# Altium integrated library Linear Technology Power Management LDO Linear Regulators.IntLib: 2339 symbols (part 110 of 131)
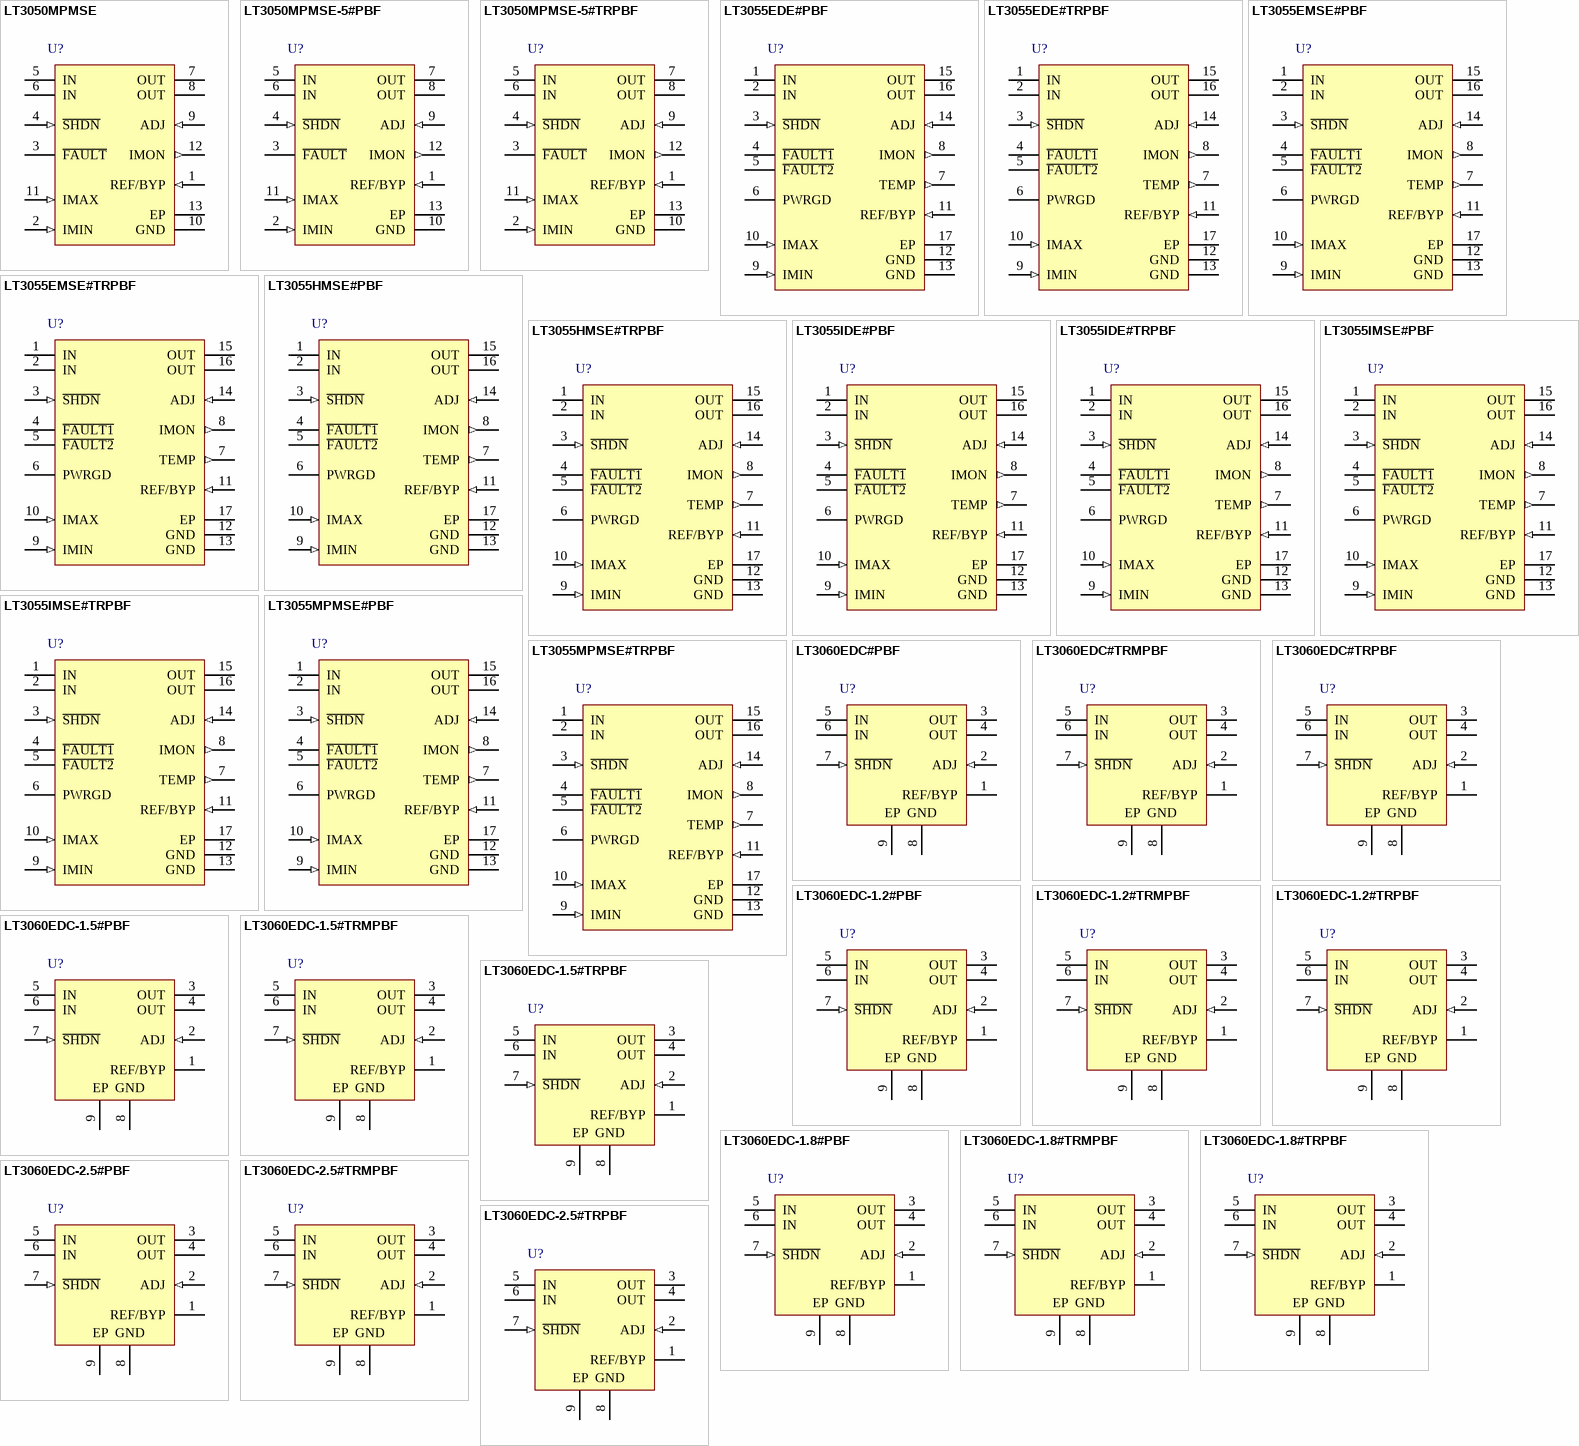
[diagram p178: symbols LT3050MPMSE to LT3060EDC-2.5#TRPBF]

## LT3060EDC-1.5#TRMPBF
designator U?
Micropower, Low Noise, 100 mA Low Dropout, Linear Regulator, 1.6 to 45 V Vin, 1.5 V Vout, 8-pin SON (DC8-8), -40 to 125 degC, Pb-Free, Mini Tape and Reel; Manufacturer: Linear Technology; PartNumber: LT3060EDC-1.5#TRMPBF; Discrete Pass Element: no; Dropout Voltage(V): 0.3; Iout(mA): 100; Isupply(mA): 0.04; Noise(uV): 30; Number of Outputs: 1; Output Voltage: 1.5 V; PSRR(dB): 77; Vin Max(V): 45; Vin Min(V): 1.6; DatasheetVersion: Rev. B; PackageVersion: Rev. A, 06/2010; PackageReference: DC8-8; PackageDescription: 8-Pin Plastic DFN, Body 2 x 2 mm, Pitch 0.45 mm; Supplier 1: Digi-Key; Supplier Part Number 1: LT3060EDC-1.5#TRMPBFTR-ND; Supplier 2: Digi-Key; Supplier Part Number 2: LT3060EDC-1.5#TRMPBFCT-ND; Supplier 3: Digi-Key; Supplier Part Number 3: LT3060EDC-1.5#TRMPBFDKR-ND; Supplier 4: Farnell; Supplier Part Number 4: 1847538; Packing: Mini Tape and Reel; RoHS: TRUE; Shutdown Current(uA): 0.3; Mounting Technology: Surface Mount; ComponentLink1Description: Manufacturer URL; ComponentLink1URL: http://www.linear.com/; ComponentLink2Description: Datasheet; ComponentLink2URL: http://cds.linear.com/docs/en/datasheet/3060fb.pdf; ComponentLink3Description: Package Specification; ComponentLink3URL: http://www.linear.com/docs/en/packaging/DFN_8_05-08-1719.pdf
footprint LT-DC8-8_V (SON, 8-Leads, Body 2x2mm, Pitch 0.45mm, Thermal Pad 1.37x0.64mm)
pins: 1 REF/BYP "Reference/Bypass. Connecting a single capacitor from this pin to GND bypasses the LT3060’s reference noise and soft-starts the reference. A 10nF bypass capacitor typically reduces output voltage noise to 30uVRMS in a 10H(See Datasheet)", 2 ADJ (in) "Adjust. This pin is the error amplifier’s inverting terminal. It’s typical bias current of 15nA flows out of the pin (see curve of ADJ Pin Bias Current vs Temperature in the Typical Performance Characteristics sectio(See Datasheet)", 3 OUT (power) "Output. These pin(s) supply power to the load. Stability requirements demand a minimum 2.2uF ceramic output capacitor to prevent oscillations. Large load transient applications require larger output capacitors to limit peak (See Datasheet)", 4 OUT (power) "Output. These pin(s) supply power to the load. Stability requirements demand a minimum 2.2uF ceramic output capacitor to prevent oscillations. Large load transient applications require larger output capacitors to limit peak (See Datasheet)", 5 IN (power) "Input. These pin(s) supply power to the device. The LT3060 requires a local IN bypass capacitor if it is located more than six inches from the main input filter capacitor. In general, battery output impedance rises with (See Datasheet)", 6 IN (power) "Input. These pin(s) supply power to the device. The LT3060 requires a local IN bypass capacitor if it is located more than six inches from the main input filter capacitor. In general, battery output impedance rises with (See Datasheet)", 7 ~{SHDN} (in) "Shutdown. Pulling the S\H\D\N\ pin low puts the LT3060 into a low power state and turns the output off. Drive the S\H\D\N\ pin with either logic or an open collector/drain with a pull-up resistor. The resistor supplies the (See Datasheet)", 8 GND (power) "Ground. For the adjustable LT3060, connect the bottom of the external resistor divider that sets the output voltage directly to GND for optimum regulation. For the DFN package, tie exposed pad Pin 9 directly to Pin 8 and the (See Datasheet)", 9 EP (power) "Ground. For the adjustable LT3060, connect the bottom of the external resistor divider that sets the output voltage directly to GND for optimum regulation. For the DFN package, tie exposed pad Pin 9 directly to Pin 8 and the (See Datasheet)"

## LT3060EDC-1.5#TRPBF
designator U?
Micropower, Low Noise, 100 mA Low Dropout, Linear Regulator, 1.6 to 45 V Vin, 1.5 V Vout, 8-pin SON (DC8-8), -40 to 125 degC, Pb-Free, Tape and Reel; Manufacturer: Linear Technology; PartNumber: LT3060EDC-1.5#TRPBF; Discrete Pass Element: no; Dropout Voltage(V): 0.3; Iout(mA): 100; Isupply(mA): 0.04; Noise(uV): 30; Number of Outputs: 1; Output Voltage: 1.5 V; PSRR(dB): 77; Vin Max(V): 45; Vin Min(V): 1.6; DatasheetVersion: Rev. B; PackageVersion: Rev. A, 06/2010; PackageReference: DC8-8; PackageDescription: 8-Pin Plastic DFN, Body 2 x 2 mm, Pitch 0.45 mm; Supplier 1: Digi-Key; Supplier Part Number 1: LT3060EDC-1.5#TRPBF-ND; Packing: Tape and Reel; RoHS: TRUE; Shutdown Current(uA): 0.3; Mounting Technology: Surface Mount; ComponentLink1Description: Manufacturer URL; ComponentLink1URL: http://www.linear.com/; ComponentLink2Description: Datasheet; ComponentLink2URL: http://cds.linear.com/docs/en/datasheet/3060fb.pdf; ComponentLink3Description: Package Specification; ComponentLink3URL: http://www.linear.com/docs/en/packaging/DFN_8_05-08-1719.pdf
footprint LT-DC8-8_V (SON, 8-Leads, Body 2x2mm, Pitch 0.45mm, Thermal Pad 1.37x0.64mm)
pins: 1 REF/BYP "Reference/Bypass. Connecting a single capacitor from this pin to GND bypasses the LT3060’s reference noise and soft-starts the reference. A 10nF bypass capacitor typically reduces output voltage noise to 30uVRMS in a 10H(See Datasheet)", 2 ADJ (in) "Adjust. This pin is the error amplifier’s inverting terminal. It’s typical bias current of 15nA flows out of the pin (see curve of ADJ Pin Bias Current vs Temperature in the Typical Performance Characteristics sectio(See Datasheet)", 3 OUT (power) "Output. These pin(s) supply power to the load. Stability requirements demand a minimum 2.2uF ceramic output capacitor to prevent oscillations. Large load transient applications require larger output capacitors to limit peak (See Datasheet)", 4 OUT (power) "Output. These pin(s) supply power to the load. Stability requirements demand a minimum 2.2uF ceramic output capacitor to prevent oscillations. Large load transient applications require larger output capacitors to limit peak (See Datasheet)", 5 IN (power) "Input. These pin(s) supply power to the device. The LT3060 requires a local IN bypass capacitor if it is located more than six inches from the main input filter capacitor. In general, battery output impedance rises with (See Datasheet)", 6 IN (power) "Input. These pin(s) supply power to the device. The LT3060 requires a local IN bypass capacitor if it is located more than six inches from the main input filter capacitor. In general, battery output impedance rises with (See Datasheet)", 7 ~{SHDN} (in) "Shutdown. Pulling the S\H\D\N\ pin low puts the LT3060 into a low power state and turns the output off. Drive the S\H\D\N\ pin with either logic or an open collector/drain with a pull-up resistor. The resistor supplies the (See Datasheet)", 8 GND (power) "Ground. For the adjustable LT3060, connect the bottom of the external resistor divider that sets the output voltage directly to GND for optimum regulation. For the DFN package, tie exposed pad Pin 9 directly to Pin 8 and the (See Datasheet)", 9 EP (power) "Ground. For the adjustable LT3060, connect the bottom of the external resistor divider that sets the output voltage directly to GND for optimum regulation. For the DFN package, tie exposed pad Pin 9 directly to Pin 8 and the (See Datasheet)"

## LT3060EDC-1.8#PBF
designator U?
Micropower, Low Noise, 100 mA Low Dropout, Linear Regulator, 1.6 to 45 V Vin, 1.8 V Vout, 8-pin SON (DC8-8), -40 to 125 degC, Pb-Free; Manufacturer: Linear Technology; PartNumber: LT3060EDC-1.8#PBF; Discrete Pass Element: no; Dropout Voltage(V): 0.3; Iout(mA): 100; Isupply(mA): 0.04; Noise(uV): 30; Number of Outputs: 1; Output Voltage: 1.8 V; PSRR(dB): 75; Vin Max(V): 45; Vin Min(V): 1.6; DatasheetVersion: Rev. B; PackageVersion: Rev. A, 06/2010; PackageReference: DC8-8; PackageDescription: 8-Pin Plastic DFN, Body 2 x 2 mm, Pitch 0.45 mm; Supplier 1: Farnell; Supplier Part Number 1: 1847660; Supplier 2: Newark; Supplier Part Number 2: 84R7849; RoHS: TRUE; Shutdown Current(uA): 0.3; Mounting Technology: Surface Mount; ComponentLink1Description: Manufacturer URL; ComponentLink1URL: http://www.linear.com/; ComponentLink2Description: Datasheet; ComponentLink2URL: http://cds.linear.com/docs/en/datasheet/3060fb.pdf; ComponentLink3Description: Package Specification; ComponentLink3URL: http://www.linear.com/docs/en/packaging/DFN_8_05-08-1719.pdf
footprint LT-DC8-8_V (SON, 8-Leads, Body 2x2mm, Pitch 0.45mm, Thermal Pad 1.37x0.64mm)
pins: 1 REF/BYP "Reference/Bypass. Connecting a single capacitor from this pin to GND bypasses the LT3060’s reference noise and soft-starts the reference. A 10nF bypass capacitor typically reduces output voltage noise to 30uVRMS in a 10H(See Datasheet)", 2 ADJ (in) "Adjust. This pin is the error amplifier’s inverting terminal. It’s typical bias current of 15nA flows out of the pin (see curve of ADJ Pin Bias Current vs Temperature in the Typical Performance Characteristics sectio(See Datasheet)", 3 OUT (power) "Output. These pin(s) supply power to the load. Stability requirements demand a minimum 2.2uF ceramic output capacitor to prevent oscillations. Large load transient applications require larger output capacitors to limit peak (See Datasheet)", 4 OUT (power) "Output. These pin(s) supply power to the load. Stability requirements demand a minimum 2.2uF ceramic output capacitor to prevent oscillations. Large load transient applications require larger output capacitors to limit peak (See Datasheet)", 5 IN (power) "Input. These pin(s) supply power to the device. The LT3060 requires a local IN bypass capacitor if it is located more than six inches from the main input filter capacitor. In general, battery output impedance rises with (See Datasheet)", 6 IN (power) "Input. These pin(s) supply power to the device. The LT3060 requires a local IN bypass capacitor if it is located more than six inches from the main input filter capacitor. In general, battery output impedance rises with (See Datasheet)", 7 ~{SHDN} (in) "Shutdown. Pulling the S\H\D\N\ pin low puts the LT3060 into a low power state and turns the output off. Drive the S\H\D\N\ pin with either logic or an open collector/drain with a pull-up resistor. The resistor supplies the (See Datasheet)", 8 GND (power) "Ground. For the adjustable LT3060, connect the bottom of the external resistor divider that sets the output voltage directly to GND for optimum regulation. For the DFN package, tie exposed pad Pin 9 directly to Pin 8 and the (See Datasheet)", 9 EP (power) "Ground. For the adjustable LT3060, connect the bottom of the external resistor divider that sets the output voltage directly to GND for optimum regulation. For the DFN package, tie exposed pad Pin 9 directly to Pin 8 and the (See Datasheet)"

## LT3060EDC-1.8#TRMPBF
designator U?
Micropower, Low Noise, 100 mA Low Dropout, Linear Regulator, 1.6 to 45 V Vin, 1.8 V Vout, 8-pin SON (DC8-8), -40 to 125 degC, Pb-Free, Mini Tape and Reel; Manufacturer: Linear Technology; PartNumber: LT3060EDC-1.8#TRMPBF; Discrete Pass Element: no; Dropout Voltage(V): 0.3; Iout(mA): 100; Isupply(mA): 0.04; Noise(uV): 30; Number of Outputs: 1; Output Voltage: 1.8 V; PSRR(dB): 75; Vin Max(V): 45; Vin Min(V): 1.6; DatasheetVersion: Rev. B; PackageVersion: Rev. A, 06/2010; PackageReference: DC8-8; PackageDescription: 8-Pin Plastic DFN, Body 2 x 2 mm, Pitch 0.45 mm; Supplier 1: Digi-Key; Supplier Part Number 1: LT3060EDC-1.8#TRMPBFTR-ND; Supplier 2: Digi-Key; Supplier Part Number 2: LT3060EDC-1.8#TRMPBFCT-ND; Supplier 3: Digi-Key; Supplier Part Number 3: LT3060EDC-1.8#TRMPBFDKR-ND; Supplier 4: Farnell; Supplier Part Number 4: 1847542; Packing: Mini Tape and Reel; RoHS: TRUE; Shutdown Current(uA): 0.3; Mounting Technology: Surface Mount; ComponentLink1Description: Manufacturer URL; ComponentLink1URL: http://www.linear.com/; ComponentLink2Description: Datasheet; ComponentLink2URL: http://cds.linear.com/docs/en/datasheet/3060fb.pdf; ComponentLink3Description: Package Specification; ComponentLink3URL: http://www.linear.com/docs/en/packaging/DFN_8_05-08-1719.pdf
footprint LT-DC8-8_V (SON, 8-Leads, Body 2x2mm, Pitch 0.45mm, Thermal Pad 1.37x0.64mm)
pins: 1 REF/BYP "Reference/Bypass. Connecting a single capacitor from this pin to GND bypasses the LT3060’s reference noise and soft-starts the reference. A 10nF bypass capacitor typically reduces output voltage noise to 30uVRMS in a 10H(See Datasheet)", 2 ADJ (in) "Adjust. This pin is the error amplifier’s inverting terminal. It’s typical bias current of 15nA flows out of the pin (see curve of ADJ Pin Bias Current vs Temperature in the Typical Performance Characteristics sectio(See Datasheet)", 3 OUT (power) "Output. These pin(s) supply power to the load. Stability requirements demand a minimum 2.2uF ceramic output capacitor to prevent oscillations. Large load transient applications require larger output capacitors to limit peak (See Datasheet)", 4 OUT (power) "Output. These pin(s) supply power to the load. Stability requirements demand a minimum 2.2uF ceramic output capacitor to prevent oscillations. Large load transient applications require larger output capacitors to limit peak (See Datasheet)", 5 IN (power) "Input. These pin(s) supply power to the device. The LT3060 requires a local IN bypass capacitor if it is located more than six inches from the main input filter capacitor. In general, battery output impedance rises with (See Datasheet)", 6 IN (power) "Input. These pin(s) supply power to the device. The LT3060 requires a local IN bypass capacitor if it is located more than six inches from the main input filter capacitor. In general, battery output impedance rises with (See Datasheet)", 7 ~{SHDN} (in) "Shutdown. Pulling the S\H\D\N\ pin low puts the LT3060 into a low power state and turns the output off. Drive the S\H\D\N\ pin with either logic or an open collector/drain with a pull-up resistor. The resistor supplies the (See Datasheet)", 8 GND (power) "Ground. For the adjustable LT3060, connect the bottom of the external resistor divider that sets the output voltage directly to GND for optimum regulation. For the DFN package, tie exposed pad Pin 9 directly to Pin 8 and the (See Datasheet)", 9 EP (power) "Ground. For the adjustable LT3060, connect the bottom of the external resistor divider that sets the output voltage directly to GND for optimum regulation. For the DFN package, tie exposed pad Pin 9 directly to Pin 8 and the (See Datasheet)"

## LT3060EDC-1.8#TRPBF
designator U?
Micropower, Low Noise, 100 mA Low Dropout, Linear Regulator, 1.6 to 45 V Vin, 1.8 V Vout, 8-pin SON (DC8-8), -40 to 125 degC, Pb-Free, Tape and Reel; Manufacturer: Linear Technology; PartNumber: LT3060EDC-1.8#TRPBF; Discrete Pass Element: no; Dropout Voltage(V): 0.3; Iout(mA): 100; Isupply(mA): 0.04; Noise(uV): 30; Number of Outputs: 1; Output Voltage: 1.8 V; PSRR(dB): 75; Vin Max(V): 45; Vin Min(V): 1.6; DatasheetVersion: Rev. B; PackageVersion: Rev. A, 06/2010; PackageReference: DC8-8; PackageDescription: 8-Pin Plastic DFN, Body 2 x 2 mm, Pitch 0.45 mm; Supplier 1: Digi-Key; Supplier Part Number 1: LT3060EDC-1.8#TRPBF-ND; Packing: Tape and Reel; RoHS: TRUE; Shutdown Current(uA): 0.3; Mounting Technology: Surface Mount; ComponentLink1Description: Manufacturer URL; ComponentLink1URL: http://www.linear.com/; ComponentLink2Description: Datasheet; ComponentLink2URL: http://cds.linear.com/docs/en/datasheet/3060fb.pdf; ComponentLink3Description: Package Specification; ComponentLink3URL: http://www.linear.com/docs/en/packaging/DFN_8_05-08-1719.pdf
footprint LT-DC8-8_V (SON, 8-Leads, Body 2x2mm, Pitch 0.45mm, Thermal Pad 1.37x0.64mm)
pins: 1 REF/BYP "Reference/Bypass. Connecting a single capacitor from this pin to GND bypasses the LT3060’s reference noise and soft-starts the reference. A 10nF bypass capacitor typically reduces output voltage noise to 30uVRMS in a 10H(See Datasheet)", 2 ADJ (in) "Adjust. This pin is the error amplifier’s inverting terminal. It’s typical bias current of 15nA flows out of the pin (see curve of ADJ Pin Bias Current vs Temperature in the Typical Performance Characteristics sectio(See Datasheet)", 3 OUT (power) "Output. These pin(s) supply power to the load. Stability requirements demand a minimum 2.2uF ceramic output capacitor to prevent oscillations. Large load transient applications require larger output capacitors to limit peak (See Datasheet)", 4 OUT (power) "Output. These pin(s) supply power to the load. Stability requirements demand a minimum 2.2uF ceramic output capacitor to prevent oscillations. Large load transient applications require larger output capacitors to limit peak (See Datasheet)", 5 IN (power) "Input. These pin(s) supply power to the device. The LT3060 requires a local IN bypass capacitor if it is located more than six inches from the main input filter capacitor. In general, battery output impedance rises with (See Datasheet)", 6 IN (power) "Input. These pin(s) supply power to the device. The LT3060 requires a local IN bypass capacitor if it is located more than six inches from the main input filter capacitor. In general, battery output impedance rises with (See Datasheet)", 7 ~{SHDN} (in) "Shutdown. Pulling the S\H\D\N\ pin low puts the LT3060 into a low power state and turns the output off. Drive the S\H\D\N\ pin with either logic or an open collector/drain with a pull-up resistor. The resistor supplies the (See Datasheet)", 8 GND (power) "Ground. For the adjustable LT3060, connect the bottom of the external resistor divider that sets the output voltage directly to GND for optimum regulation. For the DFN package, tie exposed pad Pin 9 directly to Pin 8 and the (See Datasheet)", 9 EP (power) "Ground. For the adjustable LT3060, connect the bottom of the external resistor divider that sets the output voltage directly to GND for optimum regulation. For the DFN package, tie exposed pad Pin 9 directly to Pin 8 and the (See Datasheet)"

## LT3060EDC-2.5#PBF
designator U?
Micropower, Low Noise, 100 mA Low Dropout, Linear Regulator, 1.6 to 45 V Vin, 2.5 V Vout, 8-pin SON (DC8-8), -40 to 125 degC, Pb-Free; Manufacturer: Linear Technology; PartNumber: LT3060EDC-2.5#PBF; Discrete Pass Element: no; Dropout Voltage(V): 0.3; Iout(mA): 100; Isupply(mA): 0.04; Noise(uV): 30; Number of Outputs: 1; Output Voltage: 2.5 V; PSRR(dB): 73; Vin Max(V): 45; Vin Min(V): 1.6; DatasheetVersion: Rev. B; PackageVersion: Rev. A, 06/2010; PackageReference: DC8-8; PackageDescription: 8-Pin Plastic DFN, Body 2 x 2 mm, Pitch 0.45 mm; Supplier 1: Farnell; Supplier Part Number 1: 1847662; Supplier 2: Newark; Supplier Part Number 2: 84R7850; RoHS: TRUE; Shutdown Current(uA): 0.3; Mounting Technology: Surface Mount; ComponentLink1Description: Manufacturer URL; ComponentLink1URL: http://www.linear.com/; ComponentLink2Description: Datasheet; ComponentLink2URL: http://cds.linear.com/docs/en/datasheet/3060fb.pdf; ComponentLink3Description: Package Specification; ComponentLink3URL: http://www.linear.com/docs/en/packaging/DFN_8_05-08-1719.pdf
footprint LT-DC8-8_V (SON, 8-Leads, Body 2x2mm, Pitch 0.45mm, Thermal Pad 1.37x0.64mm)
pins: 1 REF/BYP "Reference/Bypass. Connecting a single capacitor from this pin to GND bypasses the LT3060’s reference noise and soft-starts the reference. A 10nF bypass capacitor typically reduces output voltage noise to 30uVRMS in a 10H(See Datasheet)", 2 ADJ (in) "Adjust. This pin is the error amplifier’s inverting terminal. It’s typical bias current of 15nA flows out of the pin (see curve of ADJ Pin Bias Current vs Temperature in the Typical Performance Characteristics sectio(See Datasheet)", 3 OUT (power) "Output. These pin(s) supply power to the load. Stability requirements demand a minimum 2.2uF ceramic output capacitor to prevent oscillations. Large load transient applications require larger output capacitors to limit peak (See Datasheet)", 4 OUT (power) "Output. These pin(s) supply power to the load. Stability requirements demand a minimum 2.2uF ceramic output capacitor to prevent oscillations. Large load transient applications require larger output capacitors to limit peak (See Datasheet)", 5 IN (power) "Input. These pin(s) supply power to the device. The LT3060 requires a local IN bypass capacitor if it is located more than six inches from the main input filter capacitor. In general, battery output impedance rises with (See Datasheet)", 6 IN (power) "Input. These pin(s) supply power to the device. The LT3060 requires a local IN bypass capacitor if it is located more than six inches from the main input filter capacitor. In general, battery output impedance rises with (See Datasheet)", 7 ~{SHDN} (in) "Shutdown. Pulling the S\H\D\N\ pin low puts the LT3060 into a low power state and turns the output off. Drive the S\H\D\N\ pin with either logic or an open collector/drain with a pull-up resistor. The resistor supplies the (See Datasheet)", 8 GND (power) "Ground. For the adjustable LT3060, connect the bottom of the external resistor divider that sets the output voltage directly to GND for optimum regulation. For the DFN package, tie exposed pad Pin 9 directly to Pin 8 and the (See Datasheet)", 9 EP (power) "Ground. For the adjustable LT3060, connect the bottom of the external resistor divider that sets the output voltage directly to GND for optimum regulation. For the DFN package, tie exposed pad Pin 9 directly to Pin 8 and the (See Datasheet)"

## LT3060EDC-2.5#TRMPBF
designator U?
Micropower, Low Noise, 100 mA Low Dropout, Linear Regulator, 1.6 to 45 V Vin, 2.5 V Vout, 8-pin SON (DC8-8), -40 to 125 degC, Pb-Free, Mini Tape and Reel; Manufacturer: Linear Technology; PartNumber: LT3060EDC-2.5#TRMPBF; Discrete Pass Element: no; Dropout Voltage(V): 0.3; Iout(mA): 100; Isupply(mA): 0.04; Noise(uV): 30; Number of Outputs: 1; Output Voltage: 2.5 V; PSRR(dB): 73; Vin Max(V): 45; Vin Min(V): 1.6; DatasheetVersion: Rev. B; PackageVersion: Rev. A, 06/2010; PackageReference: DC8-8; PackageDescription: 8-Pin Plastic DFN, Body 2 x 2 mm, Pitch 0.45 mm; Supplier 1: Digi-Key; Supplier Part Number 1: LT3060EDC-2.5#TRMPBFTR-ND; Supplier 2: Digi-Key; Supplier Part Number 2: LT3060EDC-2.5#TRMPBFCT-ND; Supplier 3: Digi-Key; Supplier Part Number 3: LT3060EDC-2.5#TRMPBFDKR-ND; Supplier 4: Farnell; Supplier Part Number 4: 1847560; Packing: Mini Tape and Reel; RoHS: TRUE; Shutdown Current(uA): 0.3; Mounting Technology: Surface Mount; ComponentLink1Description: Manufacturer URL; ComponentLink1URL: http://www.linear.com/; ComponentLink2Description: Datasheet; ComponentLink2URL: http://cds.linear.com/docs/en/datasheet/3060fb.pdf; ComponentLink3Description: Package Specification; ComponentLink3URL: http://www.linear.com/docs/en/packaging/DFN_8_05-08-1719.pdf
footprint LT-DC8-8_V (SON, 8-Leads, Body 2x2mm, Pitch 0.45mm, Thermal Pad 1.37x0.64mm)
pins: 1 REF/BYP "Reference/Bypass. Connecting a single capacitor from this pin to GND bypasses the LT3060’s reference noise and soft-starts the reference. A 10nF bypass capacitor typically reduces output voltage noise to 30uVRMS in a 10H(See Datasheet)", 2 ADJ (in) "Adjust. This pin is the error amplifier’s inverting terminal. It’s typical bias current of 15nA flows out of the pin (see curve of ADJ Pin Bias Current vs Temperature in the Typical Performance Characteristics sectio(See Datasheet)", 3 OUT (power) "Output. These pin(s) supply power to the load. Stability requirements demand a minimum 2.2uF ceramic output capacitor to prevent oscillations. Large load transient applications require larger output capacitors to limit peak (See Datasheet)", 4 OUT (power) "Output. These pin(s) supply power to the load. Stability requirements demand a minimum 2.2uF ceramic output capacitor to prevent oscillations. Large load transient applications require larger output capacitors to limit peak (See Datasheet)", 5 IN (power) "Input. These pin(s) supply power to the device. The LT3060 requires a local IN bypass capacitor if it is located more than six inches from the main input filter capacitor. In general, battery output impedance rises with (See Datasheet)", 6 IN (power) "Input. These pin(s) supply power to the device. The LT3060 requires a local IN bypass capacitor if it is located more than six inches from the main input filter capacitor. In general, battery output impedance rises with (See Datasheet)", 7 ~{SHDN} (in) "Shutdown. Pulling the S\H\D\N\ pin low puts the LT3060 into a low power state and turns the output off. Drive the S\H\D\N\ pin with either logic or an open collector/drain with a pull-up resistor. The resistor supplies the (See Datasheet)", 8 GND (power) "Ground. For the adjustable LT3060, connect the bottom of the external resistor divider that sets the output voltage directly to GND for optimum regulation. For the DFN package, tie exposed pad Pin 9 directly to Pin 8 and the (See Datasheet)", 9 EP (power) "Ground. For the adjustable LT3060, connect the bottom of the external resistor divider that sets the output voltage directly to GND for optimum regulation. For the DFN package, tie exposed pad Pin 9 directly to Pin 8 and the (See Datasheet)"

## LT3060EDC-2.5#TRPBF
designator U?
Micropower, Low Noise, 100 mA Low Dropout, Linear Regulator, 1.6 to 45 V Vin, 2.5 V Vout, 8-pin SON (DC8-8), -40 to 125 degC, Pb-Free, Tape and Reel; Manufacturer: Linear Technology; PartNumber: LT3060EDC-2.5#TRPBF; Discrete Pass Element: no; Dropout Voltage(V): 0.3; Iout(mA): 100; Isupply(mA): 0.04; Noise(uV): 30; Number of Outputs: 1; Output Voltage: 2.5 V; PSRR(dB): 73; Vin Max(V): 45; Vin Min(V): 1.6; DatasheetVersion: Rev. B; PackageVersion: Rev. A, 06/2010; PackageReference: DC8-8; PackageDescription: 8-Pin Plastic DFN, Body 2 x 2 mm, Pitch 0.45 mm; Supplier 1: Digi-Key; Supplier Part Number 1: LT3060EDC-2.5#TRPBF-ND; Packing: Tape and Reel; RoHS: TRUE; Shutdown Current(uA): 0.3; Mounting Technology: Surface Mount; ComponentLink1Description: Manufacturer URL; ComponentLink1URL: http://www.linear.com/; ComponentLink2Description: Datasheet; ComponentLink2URL: http://cds.linear.com/docs/en/datasheet/3060fb.pdf; ComponentLink3Description: Package Specification; ComponentLink3URL: http://www.linear.com/docs/en/packaging/DFN_8_05-08-1719.pdf
footprint LT-DC8-8_V (SON, 8-Leads, Body 2x2mm, Pitch 0.45mm, Thermal Pad 1.37x0.64mm)
pins: 1 REF/BYP "Reference/Bypass. Connecting a single capacitor from this pin to GND bypasses the LT3060’s reference noise and soft-starts the reference. A 10nF bypass capacitor typically reduces output voltage noise to 30uVRMS in a 10H(See Datasheet)", 2 ADJ (in) "Adjust. This pin is the error amplifier’s inverting terminal. It’s typical bias current of 15nA flows out of the pin (see curve of ADJ Pin Bias Current vs Temperature in the Typical Performance Characteristics sectio(See Datasheet)", 3 OUT (power) "Output. These pin(s) supply power to the load. Stability requirements demand a minimum 2.2uF ceramic output capacitor to prevent oscillations. Large load transient applications require larger output capacitors to limit peak (See Datasheet)", 4 OUT (power) "Output. These pin(s) supply power to the load. Stability requirements demand a minimum 2.2uF ceramic output capacitor to prevent oscillations. Large load transient applications require larger output capacitors to limit peak (See Datasheet)", 5 IN (power) "Input. These pin(s) supply power to the device. The LT3060 requires a local IN bypass capacitor if it is located more than six inches from the main input filter capacitor. In general, battery output impedance rises with (See Datasheet)", 6 IN (power) "Input. These pin(s) supply power to the device. The LT3060 requires a local IN bypass capacitor if it is located more than six inches from the main input filter capacitor. In general, battery output impedance rises with (See Datasheet)", 7 ~{SHDN} (in) "Shutdown. Pulling the S\H\D\N\ pin low puts the LT3060 into a low power state and turns the output off. Drive the S\H\D\N\ pin with either logic or an open collector/drain with a pull-up resistor. The resistor supplies the (See Datasheet)", 8 GND (power) "Ground. For the adjustable LT3060, connect the bottom of the external resistor divider that sets the output voltage directly to GND for optimum regulation. For the DFN package, tie exposed pad Pin 9 directly to Pin 8 and the (See Datasheet)", 9 EP (power) "Ground. For the adjustable LT3060, connect the bottom of the external resistor divider that sets the output voltage directly to GND for optimum regulation. For the DFN package, tie exposed pad Pin 9 directly to Pin 8 and the (See Datasheet)"

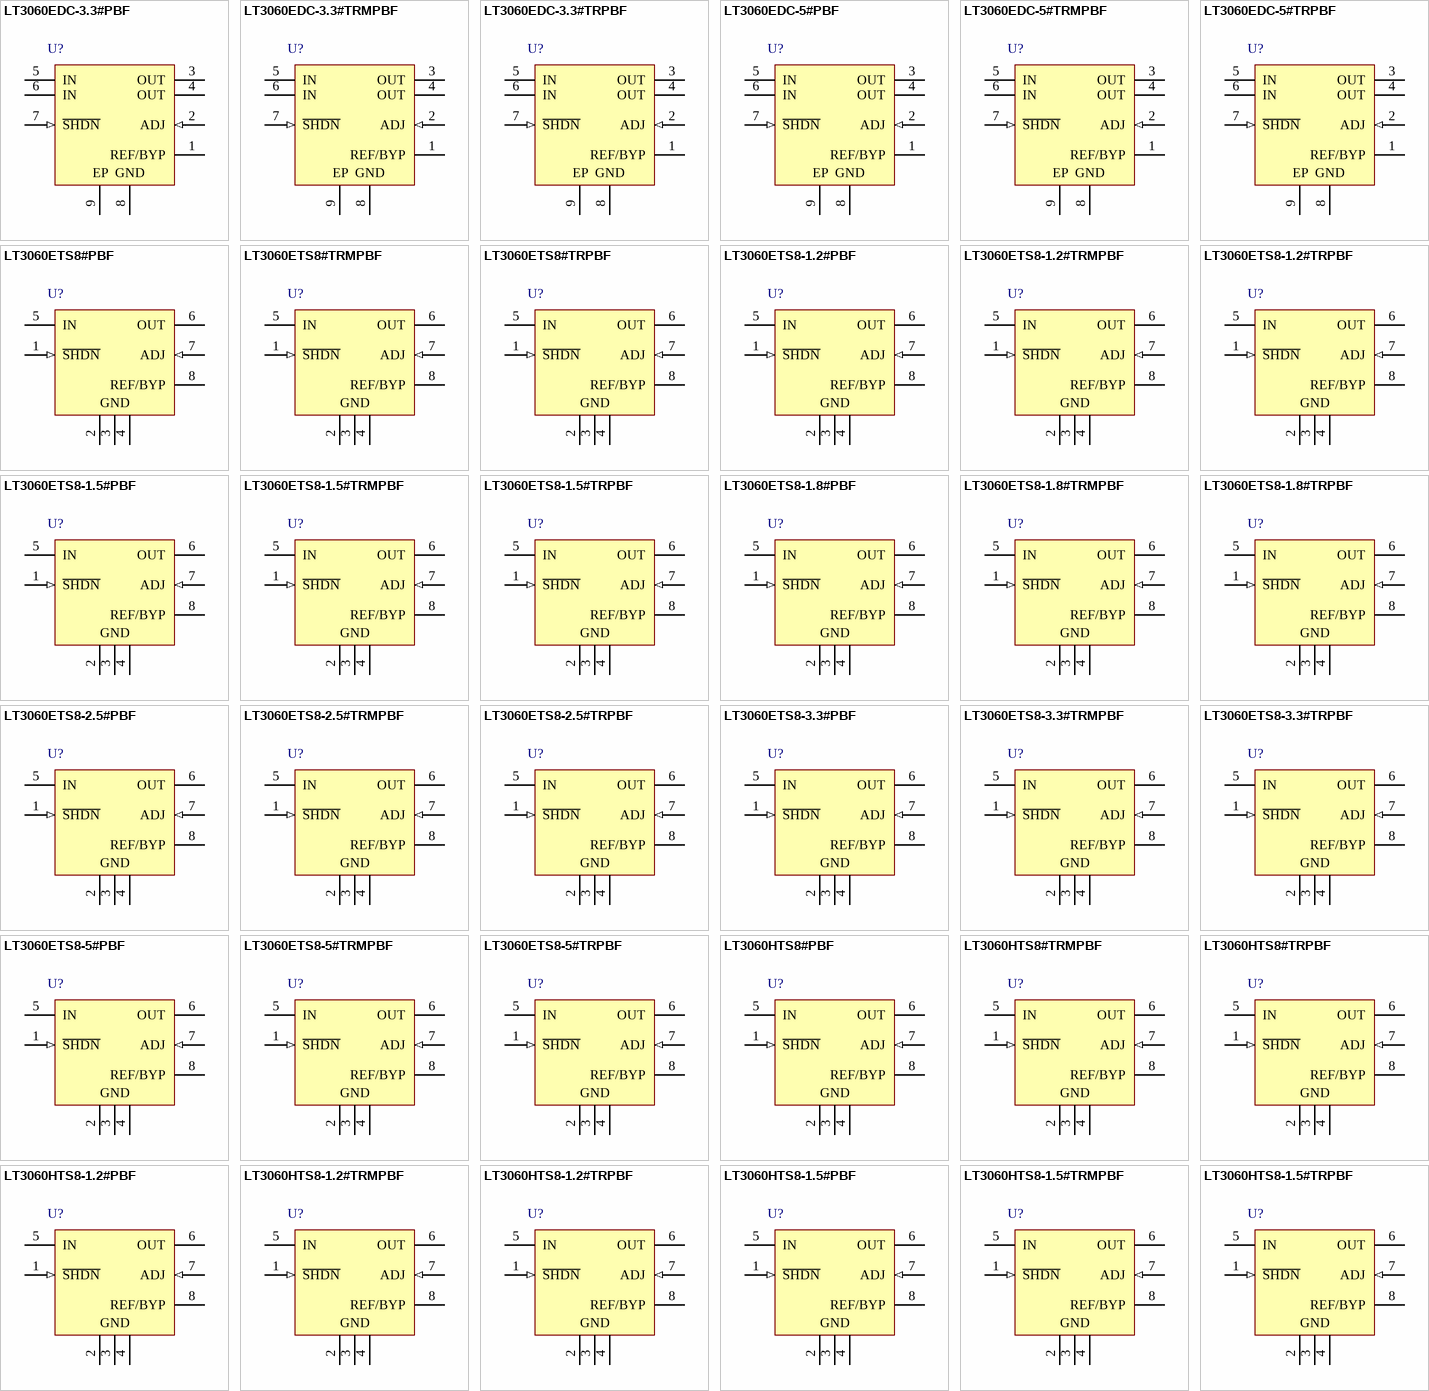
[diagram p61: symbols LT3060EDC-3.3#PBF to LT3060HTS8-1.5#TRPBF]

## LT3060EDC-3.3#PBF
designator U?
Micropower, Low Noise, 100 mA Low Dropout, Linear Regulator, 1.6 to 45 V Vin, 3.3 V Vout, 8-pin SON (DC8-8), -40 to 125 degC, Pb-Free; Manufacturer: Linear Technology; PartNumber: LT3060EDC-3.3#PBF; Discrete Pass Element: no; Dropout Voltage(V): 0.3; Iout(mA): 100; Isupply(mA): 0.04; Noise(uV): 30; Number of Outputs: 1; Output Voltage: 3.3 V; PSRR(dB): 70; Vin Max(V): 45; Vin Min(V): 1.6; DatasheetVersion: Rev. B; PackageVersion: Rev. A, 06/2010; PackageReference: DC8-8; PackageDescription: 8-Pin Plastic DFN, Body 2 x 2 mm, Pitch 0.45 mm; Supplier 1: Farnell; Supplier Part Number 1: 1847663; Supplier 2: Newark; Supplier Part Number 2: 84R7851; RoHS: TRUE; Shutdown Current(uA): 0.3; Mounting Technology: Surface Mount; ComponentLink1Description: Manufacturer URL; ComponentLink1URL: http://www.linear.com/; ComponentLink2Description: Datasheet; ComponentLink2URL: http://cds.linear.com/docs/en/datasheet/3060fb.pdf; ComponentLink3Description: Package Specification; ComponentLink3URL: http://www.linear.com/docs/en/packaging/DFN_8_05-08-1719.pdf
footprint LT-DC8-8_V (SON, 8-Leads, Body 2x2mm, Pitch 0.45mm, Thermal Pad 1.37x0.64mm)
pins: 1 REF/BYP "Reference/Bypass. Connecting a single capacitor from this pin to GND bypasses the LT3060’s reference noise and soft-starts the reference. A 10nF bypass capacitor typically reduces output voltage noise to 30uVRMS in a 10H(See Datasheet)", 2 ADJ (in) "Adjust. This pin is the error amplifier’s inverting terminal. It’s typical bias current of 15nA flows out of the pin (see curve of ADJ Pin Bias Current vs Temperature in the Typical Performance Characteristics sectio(See Datasheet)", 3 OUT (power) "Output. These pin(s) supply power to the load. Stability requirements demand a minimum 2.2uF ceramic output capacitor to prevent oscillations. Large load transient applications require larger output capacitors to limit peak (See Datasheet)", 4 OUT (power) "Output. These pin(s) supply power to the load. Stability requirements demand a minimum 2.2uF ceramic output capacitor to prevent oscillations. Large load transient applications require larger output capacitors to limit peak (See Datasheet)", 5 IN (power) "Input. These pin(s) supply power to the device. The LT3060 requires a local IN bypass capacitor if it is located more than six inches from the main input filter capacitor. In general, battery output impedance rises with (See Datasheet)", 6 IN (power) "Input. These pin(s) supply power to the device. The LT3060 requires a local IN bypass capacitor if it is located more than six inches from the main input filter capacitor. In general, battery output impedance rises with (See Datasheet)", 7 ~{SHDN} (in) "Shutdown. Pulling the S\H\D\N\ pin low puts the LT3060 into a low power state and turns the output off. Drive the S\H\D\N\ pin with either logic or an open collector/drain with a pull-up resistor. The resistor supplies the (See Datasheet)", 8 GND (power) "Ground. For the adjustable LT3060, connect the bottom of the external resistor divider that sets the output voltage directly to GND for optimum regulation. For the DFN package, tie exposed pad Pin 9 directly to Pin 8 and the (See Datasheet)", 9 EP (power) "Ground. For the adjustable LT3060, connect the bottom of the external resistor divider that sets the output voltage directly to GND for optimum regulation. For the DFN package, tie exposed pad Pin 9 directly to Pin 8 and the (See Datasheet)"

## LT3060EDC-3.3#TRMPBF
designator U?
Micropower, Low Noise, 100 mA Low Dropout, Linear Regulator, 1.6 to 45 V Vin, 3.3 V Vout, 8-pin SON (DC8-8), -40 to 125 degC, Pb-Free, Mini Tape and Reel; Manufacturer: Linear Technology; PartNumber: LT3060EDC-3.3#TRMPBF; Discrete Pass Element: no; Dropout Voltage(V): 0.3; Iout(mA): 100; Isupply(mA): 0.04; Noise(uV): 30; Number of Outputs: 1; Output Voltage: 3.3 V; PSRR(dB): 70; Vin Max(V): 45; Vin Min(V): 1.6; DatasheetVersion: Rev. B; PackageVersion: Rev. A, 06/2010; PackageReference: DC8-8; PackageDescription: 8-Pin Plastic DFN, Body 2 x 2 mm, Pitch 0.45 mm; Supplier 1: Digi-Key; Supplier Part Number 1: LT3060EDC-3.3#TRMPBFTR-ND; Supplier 2: Digi-Key; Supplier Part Number 2: LT3060EDC-3.3#TRMPBFCT-ND; Supplier 3: Digi-Key; Supplier Part Number 3: LT3060EDC-3.3#TRMPBFDKR-ND; Supplier 4: Farnell; Supplier Part Number 4: 1847563; Supplier 5: Newark; Supplier Part Number 5: 84R5031; Packing: Mini Tape and Reel; RoHS: TRUE; Shutdown Current(uA): 0.3; Mounting Technology: Surface Mount; ComponentLink1Description: Manufacturer URL; ComponentLink1URL: http://www.linear.com/; ComponentLink2Description: Datasheet; ComponentLink2URL: http://cds.linear.com/docs/en/datasheet/3060fb.pdf; ComponentLink3Description: Package Specification; ComponentLink3URL: http://www.linear.com/docs/en/packaging/DFN_8_05-08-1719.pdf
footprint LT-DC8-8_V (SON, 8-Leads, Body 2x2mm, Pitch 0.45mm, Thermal Pad 1.37x0.64mm)
pins: 1 REF/BYP "Reference/Bypass. Connecting a single capacitor from this pin to GND bypasses the LT3060’s reference noise and soft-starts the reference. A 10nF bypass capacitor typically reduces output voltage noise to 30uVRMS in a 10H(See Datasheet)", 2 ADJ (in) "Adjust. This pin is the error amplifier’s inverting terminal. It’s typical bias current of 15nA flows out of the pin (see curve of ADJ Pin Bias Current vs Temperature in the Typical Performance Characteristics sectio(See Datasheet)", 3 OUT (power) "Output. These pin(s) supply power to the load. Stability requirements demand a minimum 2.2uF ceramic output capacitor to prevent oscillations. Large load transient applications require larger output capacitors to limit peak (See Datasheet)", 4 OUT (power) "Output. These pin(s) supply power to the load. Stability requirements demand a minimum 2.2uF ceramic output capacitor to prevent oscillations. Large load transient applications require larger output capacitors to limit peak (See Datasheet)", 5 IN (power) "Input. These pin(s) supply power to the device. The LT3060 requires a local IN bypass capacitor if it is located more than six inches from the main input filter capacitor. In general, battery output impedance rises with (See Datasheet)", 6 IN (power) "Input. These pin(s) supply power to the device. The LT3060 requires a local IN bypass capacitor if it is located more than six inches from the main input filter capacitor. In general, battery output impedance rises with (See Datasheet)", 7 ~{SHDN} (in) "Shutdown. Pulling the S\H\D\N\ pin low puts the LT3060 into a low power state and turns the output off. Drive the S\H\D\N\ pin with either logic or an open collector/drain with a pull-up resistor. The resistor supplies the (See Datasheet)", 8 GND (power) "Ground. For the adjustable LT3060, connect the bottom of the external resistor divider that sets the output voltage directly to GND for optimum regulation. For the DFN package, tie exposed pad Pin 9 directly to Pin 8 and the (See Datasheet)", 9 EP (power) "Ground. For the adjustable LT3060, connect the bottom of the external resistor divider that sets the output voltage directly to GND for optimum regulation. For the DFN package, tie exposed pad Pin 9 directly to Pin 8 and the (See Datasheet)"

## LT3060EDC-3.3#TRPBF
designator U?
Micropower, Low Noise, 100 mA Low Dropout, Linear Regulator, 1.6 to 45 V Vin, 3.3 V Vout, 8-pin SON (DC8-8), -40 to 125 degC, Pb-Free, Tape and Reel; Manufacturer: Linear Technology; PartNumber: LT3060EDC-3.3#TRPBF; Discrete Pass Element: no; Dropout Voltage(V): 0.3; Iout(mA): 100; Isupply(mA): 0.04; Noise(uV): 30; Number of Outputs: 1; Output Voltage: 3.3 V; PSRR(dB): 70; Vin Max(V): 45; Vin Min(V): 1.6; DatasheetVersion: Rev. B; PackageVersion: Rev. A, 06/2010; PackageReference: DC8-8; PackageDescription: 8-Pin Plastic DFN, Body 2 x 2 mm, Pitch 0.45 mm; Supplier 1: Digi-Key; Supplier Part Number 1: LT3060EDC-3.3#TRPBF-ND; Supplier 2: Newark; Supplier Part Number 2: 84R5032; Packing: Tape and Reel; RoHS: TRUE; Shutdown Current(uA): 0.3; Mounting Technology: Surface Mount; ComponentLink1Description: Manufacturer URL; ComponentLink1URL: http://www.linear.com/; ComponentLink2Description: Datasheet; ComponentLink2URL: http://cds.linear.com/docs/en/datasheet/3060fb.pdf; ComponentLink3Description: Package Specification; ComponentLink3URL: http://www.linear.com/docs/en/packaging/DFN_8_05-08-1719.pdf
footprint LT-DC8-8_V (SON, 8-Leads, Body 2x2mm, Pitch 0.45mm, Thermal Pad 1.37x0.64mm)
pins: 1 REF/BYP "Reference/Bypass. Connecting a single capacitor from this pin to GND bypasses the LT3060’s reference noise and soft-starts the reference. A 10nF bypass capacitor typically reduces output voltage noise to 30uVRMS in a 10H(See Datasheet)", 2 ADJ (in) "Adjust. This pin is the error amplifier’s inverting terminal. It’s typical bias current of 15nA flows out of the pin (see curve of ADJ Pin Bias Current vs Temperature in the Typical Performance Characteristics sectio(See Datasheet)", 3 OUT (power) "Output. These pin(s) supply power to the load. Stability requirements demand a minimum 2.2uF ceramic output capacitor to prevent oscillations. Large load transient applications require larger output capacitors to limit peak (See Datasheet)", 4 OUT (power) "Output. These pin(s) supply power to the load. Stability requirements demand a minimum 2.2uF ceramic output capacitor to prevent oscillations. Large load transient applications require larger output capacitors to limit peak (See Datasheet)", 5 IN (power) "Input. These pin(s) supply power to the device. The LT3060 requires a local IN bypass capacitor if it is located more than six inches from the main input filter capacitor. In general, battery output impedance rises with (See Datasheet)", 6 IN (power) "Input. These pin(s) supply power to the device. The LT3060 requires a local IN bypass capacitor if it is located more than six inches from the main input filter capacitor. In general, battery output impedance rises with (See Datasheet)", 7 ~{SHDN} (in) "Shutdown. Pulling the S\H\D\N\ pin low puts the LT3060 into a low power state and turns the output off. Drive the S\H\D\N\ pin with either logic or an open collector/drain with a pull-up resistor. The resistor supplies the (See Datasheet)", 8 GND (power) "Ground. For the adjustable LT3060, connect the bottom of the external resistor divider that sets the output voltage directly to GND for optimum regulation. For the DFN package, tie exposed pad Pin 9 directly to Pin 8 and the (See Datasheet)", 9 EP (power) "Ground. For the adjustable LT3060, connect the bottom of the external resistor divider that sets the output voltage directly to GND for optimum regulation. For the DFN package, tie exposed pad Pin 9 directly to Pin 8 and the (See Datasheet)"

## LT3060EDC-5#PBF
designator U?
Micropower, Low Noise, 100 mA Low Dropout, Linear Regulator, 1.6 to 45 V Vin, 5 V Vout, 8-pin SON (DC8-8), -40 to 125 degC, Pb-Free; Manufacturer: Linear Technology; PartNumber: LT3060EDC-5#PBF; Discrete Pass Element: no; Dropout Voltage(V): 0.3; Iout(mA): 100; Isupply(mA): 0.04; Noise(uV): 30; Number of Outputs: 1; Output Voltage: 5 V; PSRR(dB): 67; Vin Max(V): 45; Vin Min(V): 1.6; DatasheetVersion: Rev. B; PackageVersion: Rev. A, 06/2010; PackageReference: DC8-8; PackageDescription: 8-Pin Plastic DFN, Body 2 x 2 mm, Pitch 0.45 mm; Supplier 1: Farnell; Supplier Part Number 1: 1847664; Supplier 2: Newark; Supplier Part Number 2: 84R7852; RoHS: TRUE; Shutdown Current(uA): 0.3; Mounting Technology: Surface Mount; ComponentLink1Description: Manufacturer URL; ComponentLink1URL: http://www.linear.com/; ComponentLink2Description: Datasheet; ComponentLink2URL: http://cds.linear.com/docs/en/datasheet/3060fb.pdf; ComponentLink3Description: Package Specification; ComponentLink3URL: http://www.linear.com/docs/en/packaging/DFN_8_05-08-1719.pdf
footprint LT-DC8-8_V (SON, 8-Leads, Body 2x2mm, Pitch 0.45mm, Thermal Pad 1.37x0.64mm)
pins: 1 REF/BYP "Reference/Bypass. Connecting a single capacitor from this pin to GND bypasses the LT3060’s reference noise and soft-starts the reference. A 10nF bypass capacitor typically reduces output voltage noise to 30uVRMS in a 10H(See Datasheet)", 2 ADJ (in) "Adjust. This pin is the error amplifier’s inverting terminal. It’s typical bias current of 15nA flows out of the pin (see curve of ADJ Pin Bias Current vs Temperature in the Typical Performance Characteristics sectio(See Datasheet)", 3 OUT (power) "Output. These pin(s) supply power to the load. Stability requirements demand a minimum 2.2uF ceramic output capacitor to prevent oscillations. Large load transient applications require larger output capacitors to limit peak (See Datasheet)", 4 OUT (power) "Output. These pin(s) supply power to the load. Stability requirements demand a minimum 2.2uF ceramic output capacitor to prevent oscillations. Large load transient applications require larger output capacitors to limit peak (See Datasheet)", 5 IN (power) "Input. These pin(s) supply power to the device. The LT3060 requires a local IN bypass capacitor if it is located more than six inches from the main input filter capacitor. In general, battery output impedance rises with (See Datasheet)", 6 IN (power) "Input. These pin(s) supply power to the device. The LT3060 requires a local IN bypass capacitor if it is located more than six inches from the main input filter capacitor. In general, battery output impedance rises with (See Datasheet)", 7 ~{SHDN} (in) "Shutdown. Pulling the S\H\D\N\ pin low puts the LT3060 into a low power state and turns the output off. Drive the S\H\D\N\ pin with either logic or an open collector/drain with a pull-up resistor. The resistor supplies the (See Datasheet)", 8 GND (power) "Ground. For the adjustable LT3060, connect the bottom of the external resistor divider that sets the output voltage directly to GND for optimum regulation. For the DFN package, tie exposed pad Pin 9 directly to Pin 8 and the (See Datasheet)", 9 EP (power) "Ground. For the adjustable LT3060, connect the bottom of the external resistor divider that sets the output voltage directly to GND for optimum regulation. For the DFN package, tie exposed pad Pin 9 directly to Pin 8 and the (See Datasheet)"

## LT3060EDC-5#TRMPBF
designator U?
Micropower, Low Noise, 100 mA Low Dropout, Linear Regulator, 1.6 to 45 V Vin, 5 V Vout, 8-pin SON (DC8-8), -40 to 125 degC, Pb-Free, Mini Tape and Reel; Manufacturer: Linear Technology; PartNumber: LT3060EDC-5#TRMPBF; Discrete Pass Element: no; Dropout Voltage(V): 0.3; Iout(mA): 100; Isupply(mA): 0.04; Noise(uV): 30; Number of Outputs: 1; Output Voltage: 5 V; PSRR(dB): 67; Vin Max(V): 45; Vin Min(V): 1.6; DatasheetVersion: Rev. B; PackageVersion: Rev. A, 06/2010; PackageReference: DC8-8; PackageDescription: 8-Pin Plastic DFN, Body 2 x 2 mm, Pitch 0.45 mm; Supplier 1: Digi-Key; Supplier Part Number 1: LT3060EDC-5#TRMPBFTR-ND; Supplier 2: Digi-Key; Supplier Part Number 2: LT3060EDC-5#TRMPBFCT-ND; Supplier 3: Digi-Key; Supplier Part Number 3: LT3060EDC-5#TRMPBFDKR-ND; Supplier 4: Farnell; Supplier Part Number 4: 1847572; Packing: Mini Tape and Reel; RoHS: TRUE; Shutdown Current(uA): 0.3; Mounting Technology: Surface Mount; ComponentLink1Description: Manufacturer URL; ComponentLink1URL: http://www.linear.com/; ComponentLink2Description: Datasheet; ComponentLink2URL: http://cds.linear.com/docs/en/datasheet/3060fb.pdf; ComponentLink3Description: Package Specification; ComponentLink3URL: http://www.linear.com/docs/en/packaging/DFN_8_05-08-1719.pdf
footprint LT-DC8-8_V (SON, 8-Leads, Body 2x2mm, Pitch 0.45mm, Thermal Pad 1.37x0.64mm)
pins: 1 REF/BYP "Reference/Bypass. Connecting a single capacitor from this pin to GND bypasses the LT3060’s reference noise and soft-starts the reference. A 10nF bypass capacitor typically reduces output voltage noise to 30uVRMS in a 10H(See Datasheet)", 2 ADJ (in) "Adjust. This pin is the error amplifier’s inverting terminal. It’s typical bias current of 15nA flows out of the pin (see curve of ADJ Pin Bias Current vs Temperature in the Typical Performance Characteristics sectio(See Datasheet)", 3 OUT (power) "Output. These pin(s) supply power to the load. Stability requirements demand a minimum 2.2uF ceramic output capacitor to prevent oscillations. Large load transient applications require larger output capacitors to limit peak (See Datasheet)", 4 OUT (power) "Output. These pin(s) supply power to the load. Stability requirements demand a minimum 2.2uF ceramic output capacitor to prevent oscillations. Large load transient applications require larger output capacitors to limit peak (See Datasheet)", 5 IN (power) "Input. These pin(s) supply power to the device. The LT3060 requires a local IN bypass capacitor if it is located more than six inches from the main input filter capacitor. In general, battery output impedance rises with (See Datasheet)", 6 IN (power) "Input. These pin(s) supply power to the device. The LT3060 requires a local IN bypass capacitor if it is located more than six inches from the main input filter capacitor. In general, battery output impedance rises with (See Datasheet)", 7 ~{SHDN} (in) "Shutdown. Pulling the S\H\D\N\ pin low puts the LT3060 into a low power state and turns the output off. Drive the S\H\D\N\ pin with either logic or an open collector/drain with a pull-up resistor. The resistor supplies the (See Datasheet)", 8 GND (power) "Ground. For the adjustable LT3060, connect the bottom of the external resistor divider that sets the output voltage directly to GND for optimum regulation. For the DFN package, tie exposed pad Pin 9 directly to Pin 8 and the (See Datasheet)", 9 EP (power) "Ground. For the adjustable LT3060, connect the bottom of the external resistor divider that sets the output voltage directly to GND for optimum regulation. For the DFN package, tie exposed pad Pin 9 directly to Pin 8 and the (See Datasheet)"

## LT3060EDC-5#TRPBF
designator U?
Micropower, Low Noise, 100 mA Low Dropout, Linear Regulator, 1.6 to 45 V Vin, 5 V Vout, 8-pin SON (DC8-8), -40 to 125 degC, Pb-Free, Tape and Reel; Manufacturer: Linear Technology; PartNumber: LT3060EDC-5#TRPBF; Discrete Pass Element: no; Dropout Voltage(V): 0.3; Iout(mA): 100; Isupply(mA): 0.04; Noise(uV): 30; Number of Outputs: 1; Output Voltage: 5 V; PSRR(dB): 67; Vin Max(V): 45; Vin Min(V): 1.6; DatasheetVersion: Rev. B; PackageVersion: Rev. A, 06/2010; PackageReference: DC8-8; PackageDescription: 8-Pin Plastic DFN, Body 2 x 2 mm, Pitch 0.45 mm; Supplier 1: Digi-Key; Supplier Part Number 1: LT3060EDC-5#TRPBF-ND; Packing: Tape and Reel; RoHS: TRUE; Shutdown Current(uA): 0.3; Mounting Technology: Surface Mount; ComponentLink1Description: Manufacturer URL; ComponentLink1URL: http://www.linear.com/; ComponentLink2Description: Datasheet; ComponentLink2URL: http://cds.linear.com/docs/en/datasheet/3060fb.pdf; ComponentLink3Description: Package Specification; ComponentLink3URL: http://www.linear.com/docs/en/packaging/DFN_8_05-08-1719.pdf
footprint LT-DC8-8_V (SON, 8-Leads, Body 2x2mm, Pitch 0.45mm, Thermal Pad 1.37x0.64mm)
pins: 1 REF/BYP "Reference/Bypass. Connecting a single capacitor from this pin to GND bypasses the LT3060’s reference noise and soft-starts the reference. A 10nF bypass capacitor typically reduces output voltage noise to 30uVRMS in a 10H(See Datasheet)", 2 ADJ (in) "Adjust. This pin is the error amplifier’s inverting terminal. It’s typical bias current of 15nA flows out of the pin (see curve of ADJ Pin Bias Current vs Temperature in the Typical Performance Characteristics sectio(See Datasheet)", 3 OUT (power) "Output. These pin(s) supply power to the load. Stability requirements demand a minimum 2.2uF ceramic output capacitor to prevent oscillations. Large load transient applications require larger output capacitors to limit peak (See Datasheet)", 4 OUT (power) "Output. These pin(s) supply power to the load. Stability requirements demand a minimum 2.2uF ceramic output capacitor to prevent oscillations. Large load transient applications require larger output capacitors to limit peak (See Datasheet)", 5 IN (power) "Input. These pin(s) supply power to the device. The LT3060 requires a local IN bypass capacitor if it is located more than six inches from the main input filter capacitor. In general, battery output impedance rises with (See Datasheet)", 6 IN (power) "Input. These pin(s) supply power to the device. The LT3060 requires a local IN bypass capacitor if it is located more than six inches from the main input filter capacitor. In general, battery output impedance rises with (See Datasheet)", 7 ~{SHDN} (in) "Shutdown. Pulling the S\H\D\N\ pin low puts the LT3060 into a low power state and turns the output off. Drive the S\H\D\N\ pin with either logic or an open collector/drain with a pull-up resistor. The resistor supplies the (See Datasheet)", 8 GND (power) "Ground. For the adjustable LT3060, connect the bottom of the external resistor divider that sets the output voltage directly to GND for optimum regulation. For the DFN package, tie exposed pad Pin 9 directly to Pin 8 and the (See Datasheet)", 9 EP (power) "Ground. For the adjustable LT3060, connect the bottom of the external resistor divider that sets the output voltage directly to GND for optimum regulation. For the DFN package, tie exposed pad Pin 9 directly to Pin 8 and the (See Datasheet)"